# EAGLE library part SHIELD (library mille-feuille)
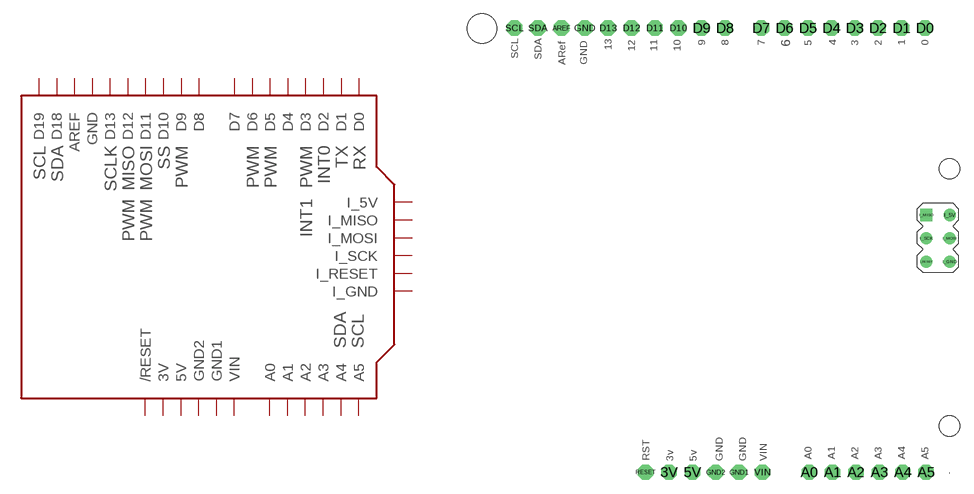
[diagram p27: symbol with the pads of SHIELD; footprint SHIELD]

Designator prefix S

## SHIELD  [SHIELD]
3V  3V  pwr
5V  5V  pwr
A0  A0
A1  A1
A2  A2
A3  A3
A4  A4
A5  A5
AREF  AREF
D0  D0
D1  D1
D2  D2
D3  D3
D4  D4
D5  D5
D6  D6
D7  D7
D8  D8
D9  D9
D10  D10
D11  D11
D12  D12
D13  D13
GND  GND  pwr
GND1  GND1  pwr
GND2  GND2  pwr
I_5V  I_5V
I_GND  I_GND
I_MISO  I_MISO
I_MOSI  I_MOSI
I_RESET  I_RESET
I_SCK  I_SCK
RESET  /RESET
SCL  D19
SDA  D18
VIN  VIN  pwr

## Footprint SHIELD (pad centres in mm)
drill 1 pad 1.676 octagon: 3V 36.068,2.54; 5V 38.608,2.54; A0 51.308,2.54; A1 53.848,2.54; A2 56.388,2.54; A3 58.928,2.54; A4 61.468,2.54; A5 64.008,2.54; AREF 24.384,50.8; D0 63.881,50.8; D1 61.341,50.8; D2 58.801,50.8; D3 56.261,50.8; D4 53.721,50.8; D5 51.181,50.8; D6 48.641,50.8; D7 46.101,50.8; D8 42.164,50.8; D9 39.624,50.8; D10 37.084,50.8; D11 34.544,50.8; D12 32.004,50.8; D13 29.464,50.8; GND 26.924,50.8; GND1 43.688,2.54; GND2 41.148,2.54; RESET 33.528,2.54; SCL 19.304,50.8; SDA 21.844,50.8; VIN 46.228,2.54
drill 0.8: I_5V 66.561,30.493; I_GND 66.561,25.413; I_MOSI 66.561,27.953; I_RESET 64.021,25.413; I_SCK 64.021,27.953
drill 0.8 square: I_MISO 64.021,30.493
hole 3.2 at 15.758,50.754
hole 2.2 at 66.558,35.514
hole 2.2 at 66.558,7.574